# Altium schematic symbol library Cap-Elec-8x9.SchLib: 1 symbol
Pins are listed as number, name and electrical type; pins without a type are passive.

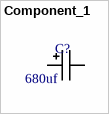
[diagram p0: symbol Component_1]

## Component_1
designator C?  value 680uf  (hidden comment: *)
footprint PCBComponent_1
pins: 1, 2